# EAGLE library part PCF8563 (library lib_stankus)
NXP PCF8563 I2C RTC Farnell #8906130
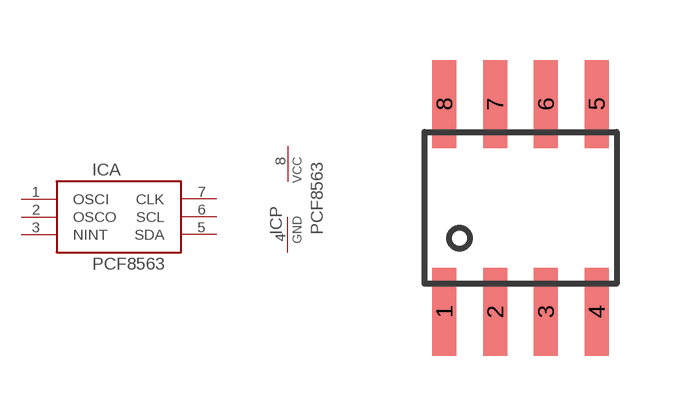
[diagram p4: symbol with the pads of SOIC8; footprint SOIC8]

Designator prefix IC; gates A=PCF8563_IO P=PCF8563_PWR

## PCF8563-SOIC8  [SOIC8]
1  A:OSCI  pas
2  A:OSCO  pas
3  A:NINT  pas
4  P:GND  pas
5  A:SDA  pas
6  A:SCL  pas
7  A:CLK  pas
8  P:VCC  pas

## Footprint SOIC8 (pad centres in mm)
SOIC8
smd 0.6 x 2.2: 1 -1.905,-2.6; 2 -0.635,-2.6; 3 0.635,-2.6; 4 1.905,-2.6; 5 1.905,2.6; 6 0.635,2.6; 7 -0.635,2.6; 8 -1.905,2.6